# EAGLE library part TMP116NAIDRVR (library Sensor)
SENSOR DIGITAL -55C-125C 6WSON Manufacturer's datasheet <http://www.ti.com/lit/ds/symlink/tmp116.pdf>
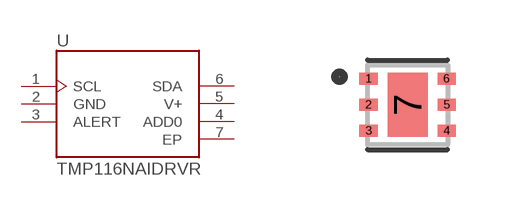
[diagram p11: symbol with the pads of TMP116NAIDRVR; footprint TMP116NAIDRVR]

Designator prefix U

## TMP116NAIDRVR (CREATED_BY: PCBLayout.com; DIGIKEY_PART_NUMBER: 296-48306-2-ND; MANUFACTURER: Texas Instruments; MPN: TMP116NAIDRVR; PACKAGE: WSON-6)  [TMP116NAIDRVR]
1  SCL  in
2  GND  pwr
3  ALERT  out
4  ADD0  in
5  V+  in
6  SDA
7  EP  pwr

## Footprint TMP116NAIDRVR (pad centres in mm)
smd 0.45 x 0.3: 1 -0.975,0.65; 2 -0.975,0; 3 -0.975,-0.65; 4 0.975,-0.65; 5 0.975,0; 6 0.975,0.65
smd 1 x 1.6: 7 0,0